# EAGLE library part 74AC244_74ALVC244 (library A13-OLinuXino_WIFI_Rev_G)
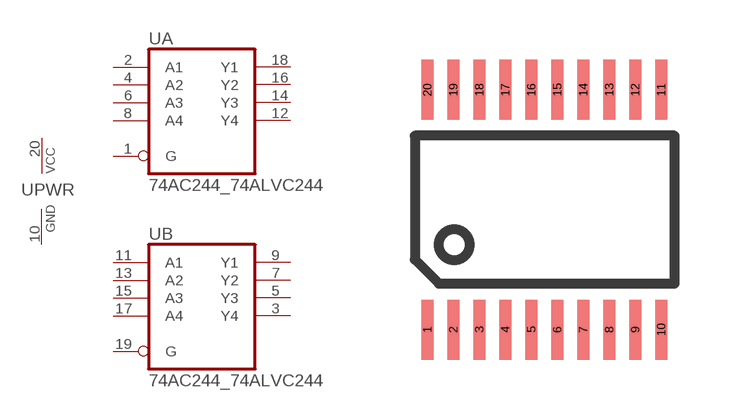
[diagram p0: symbol with the pads of 74AC244_PW; footprint 74AC244_PW]

Designator prefix U; gates A=74AC244_74ALVC244 B=74AC244_74ALVC244 PWR=74AC244_PWR_1VCC_1GND

## 74AC244_74ALVC244  [74AC244_PW]
1  A:G  in
2  A:A1  in
3  B:Y4  hiz
4  A:A2  in
5  B:Y3  hiz
6  A:A3  in
7  B:Y2  hiz
8  A:A4  in
9  B:Y1  hiz
10  PWR:GND  pwr
11  B:A1  in
12  A:Y4  hiz
13  B:A2  in
14  A:Y3  hiz
15  B:A3  in
16  A:Y2  hiz
17  B:A4  in
18  A:Y1  hiz
19  B:G  in
20  PWR:VCC  pwr

## Footprint 74AC244_PW (pad centres in mm)
smd 0.3 x 1.5: 1 -2.925,-3; 2 -2.275,-3; 3 -1.625,-3; 4 -0.975,-3; 5 -0.325,-3; 6 0.325,-3; 7 0.975,-3; 8 1.625,-3; 9 2.275,-3; 10 2.925,-3; 11 2.925,3; 12 2.275,3; 13 1.625,3; 14 0.975,3; 15 0.325,3; 16 -0.325,3; 17 -0.975,3; 18 -1.625,3; 19 -2.275,3; 20 -2.925,3